# EAGLE library part DS1306 (library DS1306)
Serial Alarm Real-Time Clock
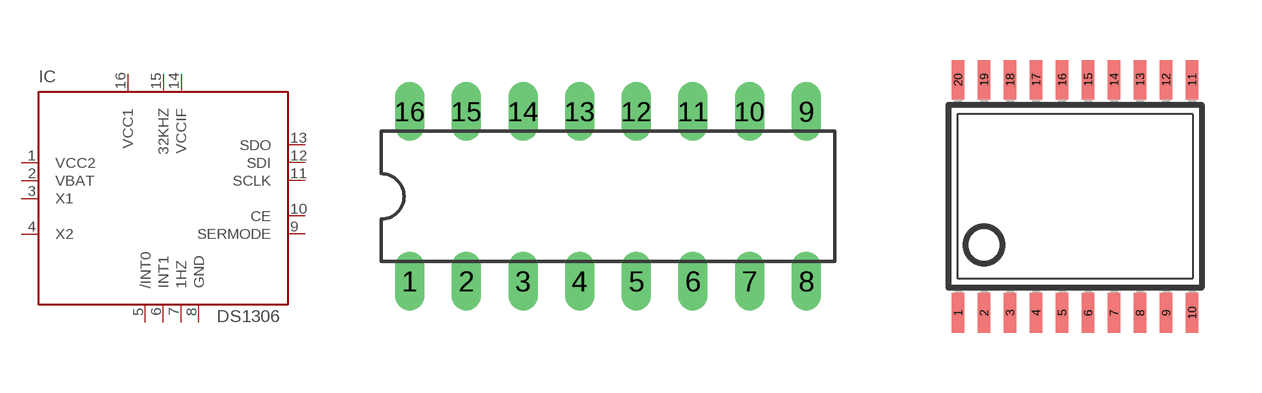
[diagram p0: symbol with the pads of DIL16; footprints DIL16, TSSOP20]

Designator prefix IC

## DS1306  [DIL16]
1  VCC2  pwr
2  VBAT  pwr
3  X1  in
4  X2  in
5  /INT0  out
6  INT1  out
7  1HZ  out
8  GND  pwr
9  SERMODE  in
10  CE  in
11  SCLK  in
12  SDI  in
13  SDO  out
14  VCCIF  pwr
15  32KHZ  out
16  VCC1  pwr

## DS1306E  [TSSOP20]
1  VCC2  pwr
2  VBAT  pwr
3  X1  in
5  X2  in
7  /INT0  out
8  INT1  out
9  1HZ  out
10  GND  pwr
11  SERMODE  in
12  CE  in
14  SCLK  in
15  SDI  in
16  SDO  out
17  VCCIF  pwr
18  32KHZ  out
20  VCC1  pwr

## Footprint DIL16 (pad centres in mm)
Dual In Line Package
drill 0.813 long: 1 -8.89,-3.81; 2 -6.35,-3.81; 3 -3.81,-3.81; 4 -1.27,-3.81; 5 1.27,-3.81; 6 3.81,-3.81; 7 6.35,-3.81; 8 8.89,-3.81; 9 8.89,3.81; 10 6.35,3.81; 11 3.81,3.81; 12 1.27,3.81; 13 -1.27,3.81; 14 -3.81,3.81; 15 -6.35,3.81; 16 -8.89,3.81

## Footprint TSSOP20 (pad centres in mm)
Thin Shrink Small Outline Plastic 20 MAX3223-MAX3243.pdf
smd 0.305 x 0.991: 1 -2.925,-2.918; 2 -2.275,-2.918; 3 -1.625,-2.918; 4 -0.975,-2.918; 5 -0.325,-2.918; 6 0.325,-2.918; 7 0.975,-2.918; 8 1.625,-2.918; 9 2.275,-2.918; 10 2.925,-2.918; 11 2.925,2.918; 12 2.275,2.918; 13 1.625,2.918; 14 0.975,2.918; 15 0.325,2.918; 16 -0.325,2.918; 17 -0.975,2.918; 18 -1.625,2.918; 19 -2.275,2.918; 20 -2.925,2.918